# Altium integrated library Analog Devices Operational Amplifiers.IntLib: 2102 symbols (part 22 of 70)
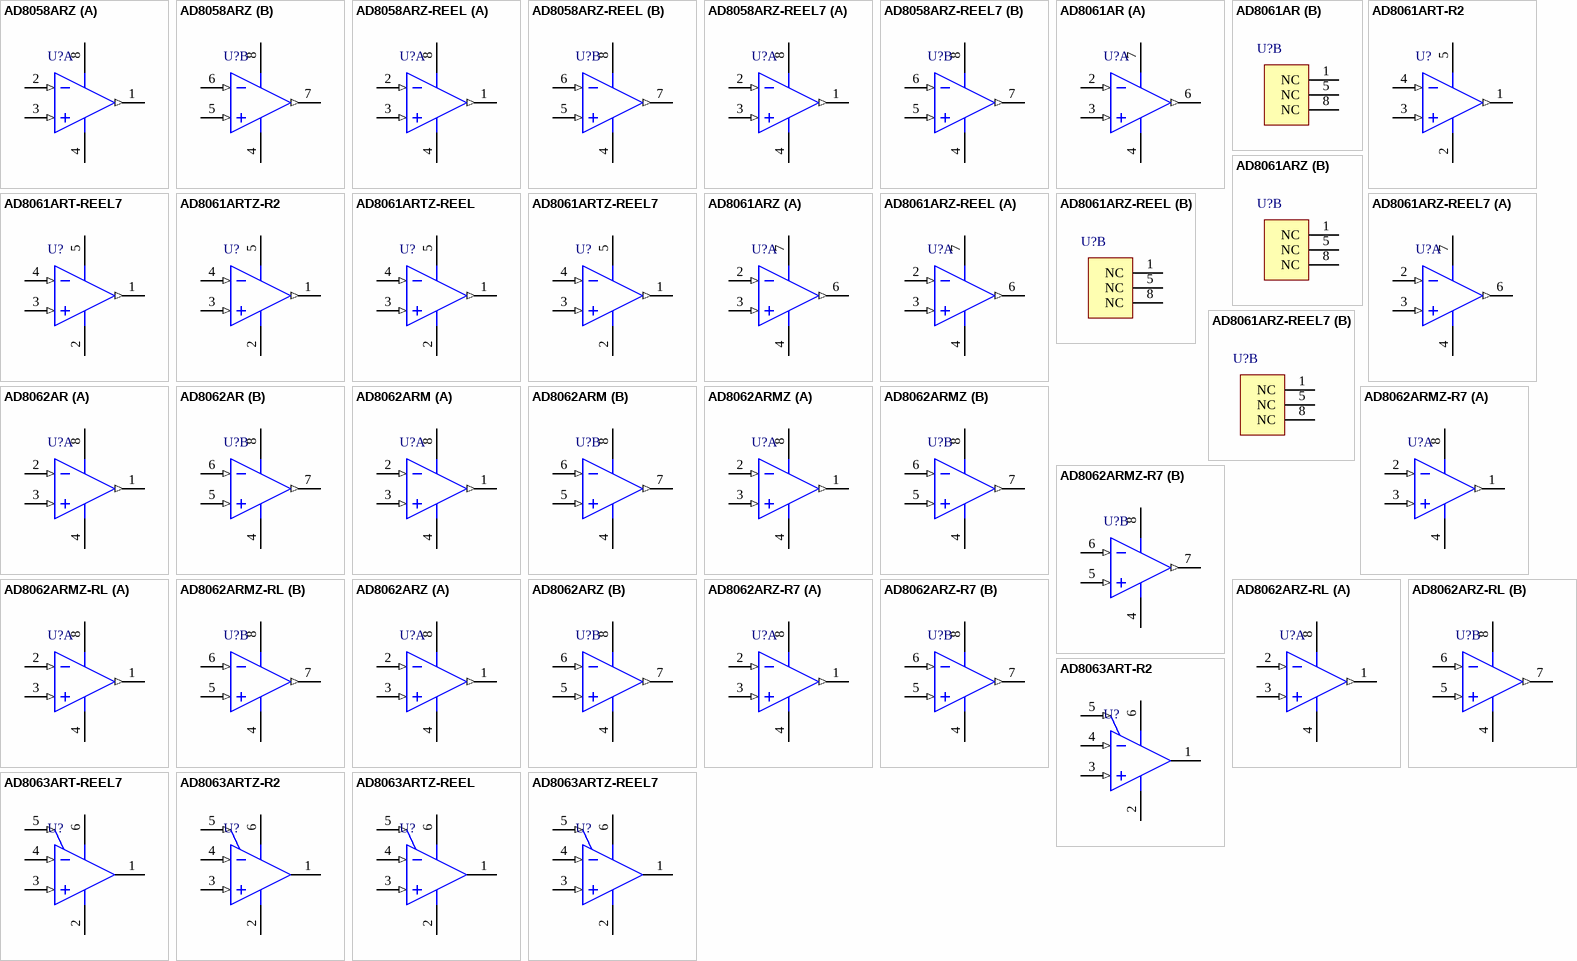
[diagram p135: symbols AD8058ARZ to AD8063ARTZ-REEL7]

## AD8061ART-REEL7
designator U?
Single Channel Low Offset Voltage Operational Amplifier, 320 MHz BW, 650 V/us SR, Industrial, 5-pin SOT23 (RJ-5), Reel; Generic Part Number: AD8061; Manufacturer: Analog Devices; PartNumber: AD8061ART-REEL7; Amplifiers Per Package: 1; Input Bias Current: 350nA; Input Offset Voltage: 1mV; Iq/Amp: 9.5mA; Small Signal Bandwidth: 320MHz; V Span Max: 8V; V Span Min: 2.7V; DatasheetVersion: Rev. G; PackageVersion: 121608-A; PackageReference: RJ-5; PackageDescription: 5-Pin Small Outline Transistor Package, Body 2.9 x 1.6 mm, Pitch 0.95 mm; Supplier 1: Digi-Key; Supplier Part Number 1: AD8061ART-REEL7TR-ND; Supplier 2: Digi-Key; Supplier Part Number 2: AD8061ART-REEL7CT-ND; Supplier 3: Newark; Supplier Part Number 3: 19M8879; Slew Rate: 650V/us; Mounting Technology: Surface Mount; Code_JEDEC: MO-178-AA; ComponentLink1Description: Manufacturer URL; ComponentLink1URL: http://www.analog.com/en/index.html; ComponentLink2Description: Datasheet; ComponentLink2URL: http://www.analog.com/static/imported-files/data_sheets/AD8061_8062_8063.pdf; ComponentLink3Description: Package Specification; ComponentLink3URL: http://www.analog.com/static/imported-files/packages/PKG_PDF/SOT-23(RJ)/RJ_5.pdf
footprint ADI-RJ-5_N (SOT-23, 5-Leads, Body 2.9x1.6mm, Pitch 0.95mm, IPC Medium Density)
footprint ADI-RJ-5_L (SOT-23, 5-Leads, Body 2.9x1.6mm, Pitch 0.95mm, IPC High Density)
footprint ADI-RJ-5_M (SOT-23, 5-Leads, Body 2.9x1.6mm, Pitch 0.95mm, IPC Low Density)
pins: 1 VOUT (out), 2 -VS (power), 3 +IN (in), 4 -IN (in), 5 +VS (power)

## AD8061ARTZ-R2
designator U?
Single Channel Low Offset Voltage Operational Amplifier, 320 MHz BW, 650 V/us SR, Industrial, 5-pin SOT23 (RJ-5), Reel; Generic Part Number: AD8061; Manufacturer: Analog Devices; PartNumber: AD8061ARTZ-R2; Amplifiers Per Package: 1; Input Bias Current: 350nA; Input Offset Voltage: 1mV; Iq/Amp: 9.5mA; Small Signal Bandwidth: 320MHz; V Span Max: 8V; V Span Min: 2.7V; DatasheetVersion: Rev. G; PackageVersion: 121608-A; PackageReference: RJ-5; PackageDescription: 5-Pin Small Outline Transistor Package, Body 2.9 x 1.6 mm, Pitch 0.95 mm; Supplier 1: Newark; Supplier Part Number 1: 88H0157; Slew Rate: 650V/us; Mounting Technology: Surface Mount; Code_JEDEC: MO-178-AA; ComponentLink1Description: Manufacturer URL; ComponentLink1URL: http://www.analog.com/en/index.html; ComponentLink2Description: Datasheet; ComponentLink2URL: http://www.analog.com/static/imported-files/data_sheets/AD8061_8062_8063.pdf; ComponentLink3Description: Package Specification; ComponentLink3URL: http://www.analog.com/static/imported-files/packages/PKG_PDF/SOT-23(RJ)/RJ_5.pdf
footprint ADI-RJ-5_N (SOT-23, 5-Leads, Body 2.9x1.6mm, Pitch 0.95mm, IPC Medium Density)
footprint ADI-RJ-5_L (SOT-23, 5-Leads, Body 2.9x1.6mm, Pitch 0.95mm, IPC High Density)
footprint ADI-RJ-5_M (SOT-23, 5-Leads, Body 2.9x1.6mm, Pitch 0.95mm, IPC Low Density)
pins: 1 VOUT (out), 2 -VS (power), 3 +IN (in), 4 -IN (in), 5 +VS (power)

## AD8061ARTZ-REEL
designator U?
Single Channel Low Offset Voltage Operational Amplifier, 320 MHz BW, 650 V/us SR, Industrial, 5-pin SOT23 (RJ-5), Reel; Generic Part Number: AD8061; Manufacturer: Analog Devices; PartNumber: AD8061ARTZ-REEL; Amplifiers Per Package: 1; Input Bias Current: 350nA; Input Offset Voltage: 1mV; Iq/Amp: 9.5mA; Small Signal Bandwidth: 320MHz; V Span Max: 8V; V Span Min: 2.7V; DatasheetVersion: Rev. G; PackageVersion: 121608-A; PackageReference: RJ-5; PackageDescription: 5-Pin Small Outline Transistor Package, Body 2.9 x 1.6 mm, Pitch 0.95 mm; Supplier 1: Digi-Key; Supplier Part Number 1: AD8061ARTZ-REEL-ND; Supplier 2: Newark; Supplier Part Number 2: 88H0155; Slew Rate: 650V/us; Mounting Technology: Surface Mount; Code_JEDEC: MO-178-AA; ComponentLink1Description: Manufacturer URL; ComponentLink1URL: http://www.analog.com/en/index.html; ComponentLink2Description: Datasheet; ComponentLink2URL: http://www.analog.com/static/imported-files/data_sheets/AD8061_8062_8063.pdf; ComponentLink3Description: Package Specification; ComponentLink3URL: http://www.analog.com/static/imported-files/packages/PKG_PDF/SOT-23(RJ)/RJ_5.pdf
footprint ADI-RJ-5_N (SOT-23, 5-Leads, Body 2.9x1.6mm, Pitch 0.95mm, IPC Medium Density)
footprint ADI-RJ-5_L (SOT-23, 5-Leads, Body 2.9x1.6mm, Pitch 0.95mm, IPC High Density)
footprint ADI-RJ-5_M (SOT-23, 5-Leads, Body 2.9x1.6mm, Pitch 0.95mm, IPC Low Density)
pins: 1 VOUT (out), 2 -VS (power), 3 +IN (in), 4 -IN (in), 5 +VS (power)

## AD8061ARTZ-REEL7
designator U?
Single Channel Low Offset Voltage Operational Amplifier, 320 MHz BW, 650 V/us SR, Industrial, 5-pin SOT23 (RJ-5), Reel; Generic Part Number: AD8061; Manufacturer: Analog Devices; PartNumber: AD8061ARTZ-REEL7; Amplifiers Per Package: 1; Input Bias Current: 350nA; Input Offset Voltage: 1mV; Iq/Amp: 9.5mA; Small Signal Bandwidth: 320MHz; V Span Max: 8V; V Span Min: 2.7V; DatasheetVersion: Rev. G; PackageVersion: 121608-A; PackageReference: RJ-5; PackageDescription: 5-Pin Small Outline Transistor Package, Body 2.9 x 1.6 mm, Pitch 0.95 mm; Supplier 1: Digi-Key; Supplier Part Number 1: AD8061ARTZ-REEL7TR-ND; Supplier 2: Digi-Key; Supplier Part Number 2: AD8061ARTZ-REEL7CT-ND; Supplier 3: Digi-Key; Supplier Part Number 3: AD8061ARTZ-REEL7DKR-ND; Supplier 4: Farnell; Supplier Part Number 4: 1838865; Supplier 5: Farnell; Supplier Part Number 5: 1838865RL; Supplier 6: Newark; Supplier Part Number 6: 19M8880; Supplier 7: Newark; Supplier Part Number 7: 88H0156; Slew Rate: 650V/us; Mounting Technology: Surface Mount; Code_JEDEC: MO-178-AA; ComponentLink1Description: Manufacturer URL; ComponentLink1URL: http://www.analog.com/en/index.html; ComponentLink2Description: Datasheet; ComponentLink2URL: http://www.analog.com/static/imported-files/data_sheets/AD8061_8062_8063.pdf; ComponentLink3Description: Package Specification; ComponentLink3URL: http://www.analog.com/static/imported-files/packages/PKG_PDF/SOT-23(RJ)/RJ_5.pdf
footprint ADI-RJ-5_N (SOT-23, 5-Leads, Body 2.9x1.6mm, Pitch 0.95mm, IPC Medium Density)
footprint ADI-RJ-5_L (SOT-23, 5-Leads, Body 2.9x1.6mm, Pitch 0.95mm, IPC High Density)
footprint ADI-RJ-5_M (SOT-23, 5-Leads, Body 2.9x1.6mm, Pitch 0.95mm, IPC Low Density)
pins: 1 VOUT (out), 2 -VS (power), 3 +IN (in), 4 -IN (in), 5 +VS (power)

## AD8061ARZ
designator U?
Single Channel Low Offset Voltage Operational Amplifier, 320 MHz BW, 650 V/us SR, Industrial, 8-pin SOIC (R-8), Tube; Generic Part Number: AD8061; Manufacturer: Analog Devices; PartNumber: AD8061ARZ; Amplifiers Per Package: 1; Input Bias Current: 350nA; Input Offset Voltage: 1mV; Iq/Amp: 9.5mA; Small Signal Bandwidth: 320MHz; V Span Max: 8V; V Span Min: 2.7V; DatasheetVersion: Rev. G; PackageVersion: 060506-A; PackageReference: R-8; PackageDescription: 8-Pin Standard Small Outline Package, Body 3.9 x 4.9 mm, Pitch 1.27 mm; Supplier 1: Digi-Key; Supplier Part Number 1: AD8061ARZ-ND; Slew Rate: 650V/us; Mounting Technology: Surface Mount; Code_JEDEC: MS-012-AA; ComponentLink1Description: Manufacturer URL; ComponentLink1URL: http://www.analog.com/en/index.html; ComponentLink2Description: Datasheet; ComponentLink2URL: http://www.analog.com/static/imported-files/data_sheets/AD8061_8062_8063.pdf; ComponentLink3Description: Package Specification; ComponentLink3URL: http://www.analog.com/static/imported-files/packages/PKG_PDF/SOIC_Narrow%20(R)/R_8.pdf
footprint ADI-R-8_N (SOIC, 8-Leads, Body 4.9x3.9mm, Pitch 1.27mm, IPC Medium Density)
footprint ADI-R-8_L (SOIC, 8-Leads, Body 4.9x3.9mm, Pitch 1.27mm, IPC High Density)
footprint ADI-R-8_M (SOIC, 8-Leads, Body 4.9x3.9mm, Pitch 1.27mm, IPC Low Density)
part A pins: 2 -IN (in), 3 +IN (in), 4 -VS (power), 6 VOUT (out), 7 +VS (power)
part B pins: 1 NC, 5 NC, 8 NC

## AD8061ARZ-REEL
designator U?
Single Channel Low Offset Voltage Operational Amplifier, 320 MHz BW, 650 V/us SR, Industrial, 8-pin SOIC (R-8), Reel; Generic Part Number: AD8061; Manufacturer: Analog Devices; PartNumber: AD8061ARZ-REEL; Amplifiers Per Package: 1; Input Bias Current: 350nA; Input Offset Voltage: 1mV; Iq/Amp: 9.5mA; Small Signal Bandwidth: 320MHz; V Span Max: 8V; V Span Min: 2.7V; DatasheetVersion: Rev. G; PackageVersion: 060506-A; PackageReference: R-8; PackageDescription: 8-Pin Standard Small Outline Package, Body 3.9 x 4.9 mm, Pitch 1.27 mm; Supplier 1: Digi-Key; Supplier Part Number 1: AD8061ARZ-REEL-ND; Slew Rate: 650V/us; Mounting Technology: Surface Mount; Code_JEDEC: MS-012-AA; ComponentLink1Description: Manufacturer URL; ComponentLink1URL: http://www.analog.com/en/index.html; ComponentLink2Description: Datasheet; ComponentLink2URL: http://www.analog.com/static/imported-files/data_sheets/AD8061_8062_8063.pdf; ComponentLink3Description: Package Specification; ComponentLink3URL: http://www.analog.com/static/imported-files/packages/PKG_PDF/SOIC_Narrow%20(R)/R_8.pdf
footprint ADI-R-8_N (SOIC, 8-Leads, Body 4.9x3.9mm, Pitch 1.27mm, IPC Medium Density)
footprint ADI-R-8_L (SOIC, 8-Leads, Body 4.9x3.9mm, Pitch 1.27mm, IPC High Density)
footprint ADI-R-8_M (SOIC, 8-Leads, Body 4.9x3.9mm, Pitch 1.27mm, IPC Low Density)
part A pins: 2 -IN (in), 3 +IN (in), 4 -VS (power), 6 VOUT (out), 7 +VS (power)
part B pins: 1 NC, 5 NC, 8 NC

## AD8061ARZ-REEL7
designator U?
Single Channel Low Offset Voltage Operational Amplifier, 320 MHz BW, 650 V/us SR, Industrial, 8-pin SOIC (R-8), Reel; Generic Part Number: AD8061; Manufacturer: Analog Devices; PartNumber: AD8061ARZ-REEL7; Amplifiers Per Package: 1; Input Bias Current: 350nA; Input Offset Voltage: 1mV; Iq/Amp: 9.5mA; Small Signal Bandwidth: 320MHz; V Span Max: 8V; V Span Min: 2.7V; DatasheetVersion: Rev. G; PackageVersion: 060506-A; PackageReference: R-8; PackageDescription: 8-Pin Standard Small Outline Package, Body 3.9 x 4.9 mm, Pitch 1.27 mm; Supplier 1: Digi-Key; Supplier Part Number 1: AD8061ARZ-REEL7-ND; Supplier 2: Farnell; Supplier Part Number 2: 2112569; Supplier 3: Newark; Supplier Part Number 3: 63M0909; Slew Rate: 650V/us; Mounting Technology: Surface Mount; Code_JEDEC: MS-012-AA; ComponentLink1Description: Manufacturer URL; ComponentLink1URL: http://www.analog.com/en/index.html; ComponentLink2Description: Datasheet; ComponentLink2URL: http://www.analog.com/static/imported-files/data_sheets/AD8061_8062_8063.pdf; ComponentLink3Description: Package Specification; ComponentLink3URL: http://www.analog.com/static/imported-files/packages/PKG_PDF/SOIC_Narrow%20(R)/R_8.pdf
footprint ADI-R-8_N (SOIC, 8-Leads, Body 4.9x3.9mm, Pitch 1.27mm, IPC Medium Density)
footprint ADI-R-8_L (SOIC, 8-Leads, Body 4.9x3.9mm, Pitch 1.27mm, IPC High Density)
footprint ADI-R-8_M (SOIC, 8-Leads, Body 4.9x3.9mm, Pitch 1.27mm, IPC Low Density)
part A pins: 2 -IN (in), 3 +IN (in), 4 -VS (power), 6 VOUT (out), 7 +VS (power)
part B pins: 1 NC, 5 NC, 8 NC

## AD8062AR
designator U?
Double Channel Low Offset Voltage Operational Amplifier, 320 MHz BW, 650 V/us SR, Industrial, 8-pin SOIC (R-8), Tube; Generic Part Number: AD8062; Manufacturer: Analog Devices; PartNumber: AD8062AR; Amplifiers Per Package: 2; Input Bias Current: 350nA; Input Offset Voltage: 1mV; Iq/Amp: 9.5mA; Small Signal Bandwidth: 320MHz; V Span Max: 8V; V Span Min: 2.7V; DatasheetVersion: Rev. G; PackageVersion: 060506-A; PackageReference: R-8; PackageDescription: 8-Pin Standard Small Outline Package, Body 3.9 x 4.9 mm, Pitch 1.27 mm; Supplier 1: Digi-Key; Supplier Part Number 1: AD8062AR-ND; Slew Rate: 650V/us; Mounting Technology: Surface Mount; Code_JEDEC: MS-012-AA; ComponentLink1Description: Manufacturer URL; ComponentLink1URL: http://www.analog.com/en/index.html; ComponentLink2Description: Datasheet; ComponentLink2URL: http://www.analog.com/static/imported-files/data_sheets/AD8061_8062_8063.pdf; ComponentLink3Description: Package Specification; ComponentLink3URL: http://www.analog.com/static/imported-files/packages/PKG_PDF/SOIC_Narrow%20(R)/R_8.pdf
footprint ADI-R-8_N (SOIC, 8-Leads, Body 4.9x3.9mm, Pitch 1.27mm, IPC Medium Density)
footprint ADI-R-8_L (SOIC, 8-Leads, Body 4.9x3.9mm, Pitch 1.27mm, IPC High Density)
footprint ADI-R-8_M (SOIC, 8-Leads, Body 4.9x3.9mm, Pitch 1.27mm, IPC Low Density)
pins on every part: 4 -VS (power), 8 +VS (power)
part A pins: 1 VOUT 1 (out), 2 -IN 1 (in), 3 +IN 1 (in)
part B pins: 5 +IN 2 (in), 6 -IN 2 (in), 7 VOUT 2 (out)

## AD8062ARM
designator U?
Double Channel Low Offset Voltage Operational Amplifier, 320 MHz BW, 650 V/us SR, Industrial, 8-pin SOP (RM-8), Tube; Generic Part Number: AD8062; Manufacturer: Analog Devices; PartNumber: AD8062ARM; Amplifiers Per Package: 2; Input Bias Current: 350nA; Input Offset Voltage: 1mV; Iq/Amp: 9.5mA; Small Signal Bandwidth: 320MHz; V Span Max: 8V; V Span Min: 2.7V; DatasheetVersion: Rev. G; PackageReference: RM-8; PackageDescription: 8-Pin Mini Small Outline Package, Body 3 x 3 mm, Pitch 0.65 mm; Supplier 1: Digi-Key; Supplier Part Number 1: AD8062ARM-ND; Supplier 2: Newark; Supplier Part Number 2: 98B7373; Slew Rate: 650V/us; Mounting Technology: Surface Mount; Code_JEDEC: MO-187-AA; ComponentLink1Description: Manufacturer URL; ComponentLink1URL: http://www.analog.com/en/index.html; ComponentLink2Description: Datasheet; ComponentLink2URL: http://www.analog.com/static/imported-files/data_sheets/AD8061_8062_8063.pdf; ComponentLink3Description: Package Specification; ComponentLink3URL: http://www.analog.com/static/imported-files/packages/PKG_PDF/MSOP%28RM%29/RM_8.pdf
footprint ADI-RM-8_N (SOP, 8-Leads, Body 3x3mm, Pitch 0.65mm, IPC Medium Density)
footprint ADI-RM-8_L (SOP, 8-Leads, Body 3x3mm, Pitch 0.65mm, IPC High Density)
footprint ADI-RM-8_M (SOP, 8-Leads, Body 3x3mm, Pitch 0.65mm, IPC Low Density)
pins on every part: 4 -VS (power), 8 +VS (power)
part A pins: 1 VOUT 1 (out), 2 -IN 1 (in), 3 +IN 1 (in)
part B pins: 5 +IN 2 (in), 6 -IN 2 (in), 7 VOUT 2 (out)

## AD8062ARMZ
designator U?
Double Channel Low Offset Voltage Operational Amplifier, 320 MHz BW, 650 V/us SR, Industrial, 8-pin SOP (RM-8), Tube; Generic Part Number: AD8062; Manufacturer: Analog Devices; PartNumber: AD8062ARMZ; Amplifiers Per Package: 2; Input Bias Current: 350nA; Input Offset Voltage: 1mV; Iq/Amp: 9.5mA; Small Signal Bandwidth: 320MHz; V Span Max: 8V; V Span Min: 2.7V; DatasheetVersion: Rev. G; PackageReference: RM-8; PackageDescription: 8-Pin Mini Small Outline Package, Body 3 x 3 mm, Pitch 0.65 mm; Supplier 1: Digi-Key; Supplier Part Number 1: AD8062ARMZ-ND; Supplier 2: Newark; Supplier Part Number 2: 74R5999; Slew Rate: 650V/us; Mounting Technology: Surface Mount; Code_JEDEC: MO-187-AA; ComponentLink1Description: Manufacturer URL; ComponentLink1URL: http://www.analog.com/en/index.html; ComponentLink2Description: Datasheet; ComponentLink2URL: http://www.analog.com/static/imported-files/data_sheets/AD8061_8062_8063.pdf; ComponentLink3Description: Package Specification; ComponentLink3URL: http://www.analog.com/static/imported-files/packages/PKG_PDF/MSOP%28RM%29/RM_8.pdf
footprint ADI-RM-8_N (SOP, 8-Leads, Body 3x3mm, Pitch 0.65mm, IPC Medium Density)
footprint ADI-RM-8_L (SOP, 8-Leads, Body 3x3mm, Pitch 0.65mm, IPC High Density)
footprint ADI-RM-8_M (SOP, 8-Leads, Body 3x3mm, Pitch 0.65mm, IPC Low Density)
pins on every part: 4 -VS (power), 8 +VS (power)
part A pins: 1 VOUT 1 (out), 2 -IN 1 (in), 3 +IN 1 (in)
part B pins: 5 +IN 2 (in), 6 -IN 2 (in), 7 VOUT 2 (out)

## AD8062ARMZ-R7
designator U?
Double Channel Low Offset Voltage Operational Amplifier, 320 MHz BW, 650 V/us SR, Industrial, 8-pin SOP (RM-8), Reel; Generic Part Number: AD8062; Manufacturer: Analog Devices; PartNumber: AD8062ARMZ-R7; Amplifiers Per Package: 2; Input Bias Current: 350nA; Input Offset Voltage: 1mV; Iq/Amp: 9.5mA; Small Signal Bandwidth: 320MHz; V Span Max: 8V; V Span Min: 2.7V; DatasheetVersion: Rev. G; PackageReference: RM-8; PackageDescription: 8-Pin Mini Small Outline Package, Body 3 x 3 mm, Pitch 0.65 mm; Supplier 1: Digi-Key; Supplier Part Number 1: AD8062ARMZ-R7TR-ND; Supplier 2: Digi-Key; Supplier Part Number 2: AD8062ARMZ-R7CT-ND; Supplier 3: Digi-Key; Supplier Part Number 3: AD8062ARMZ-R7DKR-ND; Supplier 4: Newark; Supplier Part Number 4: 59K6311; Slew Rate: 650V/us; Mounting Technology: Surface Mount; Code_JEDEC: MO-187-AA; ComponentLink1Description: Manufacturer URL; ComponentLink1URL: http://www.analog.com/en/index.html; ComponentLink2Description: Datasheet; ComponentLink2URL: http://www.analog.com/static/imported-files/data_sheets/AD8061_8062_8063.pdf; ComponentLink3Description: Package Specification; ComponentLink3URL: http://www.analog.com/static/imported-files/packages/PKG_PDF/MSOP%28RM%29/RM_8.pdf
footprint ADI-RM-8_N (SOP, 8-Leads, Body 3x3mm, Pitch 0.65mm, IPC Medium Density)
footprint ADI-RM-8_L (SOP, 8-Leads, Body 3x3mm, Pitch 0.65mm, IPC High Density)
footprint ADI-RM-8_M (SOP, 8-Leads, Body 3x3mm, Pitch 0.65mm, IPC Low Density)
pins on every part: 4 -VS (power), 8 +VS (power)
part A pins: 1 VOUT 1 (out), 2 -IN 1 (in), 3 +IN 1 (in)
part B pins: 5 +IN 2 (in), 6 -IN 2 (in), 7 VOUT 2 (out)

## AD8062ARMZ-RL
designator U?
Double Channel Low Offset Voltage Operational Amplifier, 320 MHz BW, 650 V/us SR, Industrial, 8-pin SOP (RM-8), Reel; Generic Part Number: AD8062; Manufacturer: Analog Devices; PartNumber: AD8062ARMZ-RL; Amplifiers Per Package: 2; Input Bias Current: 350nA; Input Offset Voltage: 1mV; Iq/Amp: 9.5mA; Small Signal Bandwidth: 320MHz; V Span Max: 8V; V Span Min: 2.7V; DatasheetVersion: Rev. G; PackageReference: RM-8; PackageDescription: 8-Pin Mini Small Outline Package, Body 3 x 3 mm, Pitch 0.65 mm; Supplier 1: Digi-Key; Supplier Part Number 1: AD8062ARMZ-RL-ND; Slew Rate: 650V/us; Mounting Technology: Surface Mount; Code_JEDEC: MO-187-AA; ComponentLink1Description: Manufacturer URL; ComponentLink1URL: http://www.analog.com/en/index.html; ComponentLink2Description: Datasheet; ComponentLink2URL: http://www.analog.com/static/imported-files/data_sheets/AD8061_8062_8063.pdf; ComponentLink3Description: Package Specification; ComponentLink3URL: http://www.analog.com/static/imported-files/packages/PKG_PDF/MSOP%28RM%29/RM_8.pdf
footprint ADI-RM-8_N (SOP, 8-Leads, Body 3x3mm, Pitch 0.65mm, IPC Medium Density)
footprint ADI-RM-8_L (SOP, 8-Leads, Body 3x3mm, Pitch 0.65mm, IPC High Density)
footprint ADI-RM-8_M (SOP, 8-Leads, Body 3x3mm, Pitch 0.65mm, IPC Low Density)
pins on every part: 4 -VS (power), 8 +VS (power)
part A pins: 1 VOUT 1 (out), 2 -IN 1 (in), 3 +IN 1 (in)
part B pins: 5 +IN 2 (in), 6 -IN 2 (in), 7 VOUT 2 (out)

## AD8062ARZ
designator U?
Double Channel Low Offset Voltage Operational Amplifier, 320 MHz BW, 650 V/us SR, Industrial, 8-pin SOIC (R-8), Tube; Generic Part Number: AD8062; Manufacturer: Analog Devices; PartNumber: AD8062ARZ; Amplifiers Per Package: 2; Input Bias Current: 350nA; Input Offset Voltage: 1mV; Iq/Amp: 9.5mA; Small Signal Bandwidth: 320MHz; V Span Max: 8V; V Span Min: 2.7V; DatasheetVersion: Rev. G; PackageVersion: 060506-A; PackageReference: R-8; PackageDescription: 8-Pin Standard Small Outline Package, Body 3.9 x 4.9 mm, Pitch 1.27 mm; Supplier 1: Digi-Key; Supplier Part Number 1: AD8062ARZ-ND; Supplier 2: Farnell; Supplier Part Number 2: 9425837; Supplier 3: Newark; Supplier Part Number 3: 19M0928; Slew Rate: 650V/us; Mounting Technology: Surface Mount; Code_JEDEC: MS-012-AA; ComponentLink1Description: Manufacturer URL; ComponentLink1URL: http://www.analog.com/en/index.html; ComponentLink2Description: Datasheet; ComponentLink2URL: http://www.analog.com/static/imported-files/data_sheets/AD8061_8062_8063.pdf; ComponentLink3Description: Package Specification; ComponentLink3URL: http://www.analog.com/static/imported-files/packages/PKG_PDF/SOIC_Narrow%20(R)/R_8.pdf
footprint ADI-R-8_N (SOIC, 8-Leads, Body 4.9x3.9mm, Pitch 1.27mm, IPC Medium Density)
footprint ADI-R-8_L (SOIC, 8-Leads, Body 4.9x3.9mm, Pitch 1.27mm, IPC High Density)
footprint ADI-R-8_M (SOIC, 8-Leads, Body 4.9x3.9mm, Pitch 1.27mm, IPC Low Density)
pins on every part: 4 -VS (power), 8 +VS (power)
part A pins: 1 VOUT 1 (out), 2 -IN 1 (in), 3 +IN 1 (in)
part B pins: 5 +IN 2 (in), 6 -IN 2 (in), 7 VOUT 2 (out)

## AD8062ARZ-R7
designator U?
Double Channel Low Offset Voltage Operational Amplifier, 320 MHz BW, 650 V/us SR, Industrial, 8-pin SOIC (R-8), Reel; Generic Part Number: AD8062; Manufacturer: Analog Devices; PartNumber: AD8062ARZ-R7; Amplifiers Per Package: 2; Input Bias Current: 350nA; Input Offset Voltage: 1mV; Iq/Amp: 9.5mA; Small Signal Bandwidth: 320MHz; V Span Max: 8V; V Span Min: 2.7V; DatasheetVersion: Rev. G; PackageVersion: 060506-A; PackageReference: R-8; PackageDescription: 8-Pin Standard Small Outline Package, Body 3.9 x 4.9 mm, Pitch 1.27 mm; Supplier 1: Digi-Key; Supplier Part Number 1: AD8062ARZ-R7TR-ND; Supplier 2: Digi-Key; Supplier Part Number 2: AD8062ARZ-R7CT-ND; Supplier 3: Digi-Key; Supplier Part Number 3: AD8062ARZ-R7DKR-ND; Supplier 4: Newark; Supplier Part Number 4: 88H0162; Slew Rate: 650V/us; Mounting Technology: Surface Mount; Code_JEDEC: MS-012-AA; ComponentLink1Description: Manufacturer URL; ComponentLink1URL: http://www.analog.com/en/index.html; ComponentLink2Description: Datasheet; ComponentLink2URL: http://www.analog.com/static/imported-files/data_sheets/AD8061_8062_8063.pdf; ComponentLink3Description: Package Specification; ComponentLink3URL: http://www.analog.com/static/imported-files/packages/PKG_PDF/SOIC_Narrow%20(R)/R_8.pdf
footprint ADI-R-8_N (SOIC, 8-Leads, Body 4.9x3.9mm, Pitch 1.27mm, IPC Medium Density)
footprint ADI-R-8_L (SOIC, 8-Leads, Body 4.9x3.9mm, Pitch 1.27mm, IPC High Density)
footprint ADI-R-8_M (SOIC, 8-Leads, Body 4.9x3.9mm, Pitch 1.27mm, IPC Low Density)
pins on every part: 4 -VS (power), 8 +VS (power)
part A pins: 1 VOUT 1 (out), 2 -IN 1 (in), 3 +IN 1 (in)
part B pins: 5 +IN 2 (in), 6 -IN 2 (in), 7 VOUT 2 (out)

## AD8062ARZ-RL
designator U?
Double Channel Low Offset Voltage Operational Amplifier, 320 MHz BW, 650 V/us SR, Industrial, 8-pin SOIC (R-8), Reel; Generic Part Number: AD8062; Manufacturer: Analog Devices; PartNumber: AD8062ARZ-RL; Amplifiers Per Package: 2; Input Bias Current: 350nA; Input Offset Voltage: 1mV; Iq/Amp: 9.5mA; Small Signal Bandwidth: 320MHz; V Span Max: 8V; V Span Min: 2.7V; DatasheetVersion: Rev. G; PackageVersion: 060506-A; PackageReference: R-8; PackageDescription: 8-Pin Standard Small Outline Package, Body 3.9 x 4.9 mm, Pitch 1.27 mm; Supplier 1: Digi-Key; Supplier Part Number 1: AD8062ARZ-RL-ND; Supplier 2: Newark; Supplier Part Number 2: 88H0161; Slew Rate: 650V/us; Mounting Technology: Surface Mount; Code_JEDEC: MS-012-AA; ComponentLink1Description: Manufacturer URL; ComponentLink1URL: http://www.analog.com/en/index.html; ComponentLink2Description: Datasheet; ComponentLink2URL: http://www.analog.com/static/imported-files/data_sheets/AD8061_8062_8063.pdf; ComponentLink3Description: Package Specification; ComponentLink3URL: http://www.analog.com/static/imported-files/packages/PKG_PDF/SOIC_Narrow%20(R)/R_8.pdf
footprint ADI-R-8_N (SOIC, 8-Leads, Body 4.9x3.9mm, Pitch 1.27mm, IPC Medium Density)
footprint ADI-R-8_L (SOIC, 8-Leads, Body 4.9x3.9mm, Pitch 1.27mm, IPC High Density)
footprint ADI-R-8_M (SOIC, 8-Leads, Body 4.9x3.9mm, Pitch 1.27mm, IPC Low Density)
pins on every part: 4 -VS (power), 8 +VS (power)
part A pins: 1 VOUT 1 (out), 2 -IN 1 (in), 3 +IN 1 (in)
part B pins: 5 +IN 2 (in), 6 -IN 2 (in), 7 VOUT 2 (out)

## AD8063ART-R2
designator U?
Single Channel Rail-to-Rail Operational Amplifier, 320 MHz BW, 650 V/us SR, Industrial, 6-pin SOT23 (RJ-6), Reel; Generic Part Number: AD8063; Manufacturer: Analog Devices; PartNumber: AD8063ART-R2; Amplifiers Per Package: 1; Input Bias Current: 350nA; Input Offset Voltage: 1mV; Iq/Amp: 9.5mA; Small Signal Bandwidth: 320MHz; V Span Max: 8V; V Span Min: 2.7V; DatasheetVersion: Rev. G; PackageVersion: 121608-A; PackageReference: RJ-6; PackageDescription: 6-Pin Small Outline Transistor Package, Body 2.9 x 1.6 mm, Pitch 0.95 mm; Slew Rate: 650V/us; Mounting Technology: Surface Mount; Code_JEDEC: MO-178-AB; ComponentLink1Description: Manufacturer URL; ComponentLink1URL: http://www.analog.com/en/index.html; ComponentLink2Description: Datasheet; ComponentLink2URL: http://www.analog.com/static/imported-files/data_sheets/AD8061_8062_8063.pdf; ComponentLink3Description: Package Specification; ComponentLink3URL: http://www.analog.com/static/imported-files/packages/PKG_PDF/SOT-23(RJ)/RJ_6.pdf
footprint ADI-RJ-6_N (SOT23, 6-Leads, Body 2.9x1.6mm, Pitch 0.95mm, IPC Medium Density)
footprint ADI-RJ-6_L (SOT23, 6-Leads, Body 2.9x1.6mm, Pitch 0.95mm, IPC High Density)
footprint ADI-RJ-6_M (SOT23, 6-Leads, Body 2.9x1.6mm, Pitch 0.95mm, IPC Low Density)
pins: 1 VOUT (hiz), 2 -VS (power), 3 +IN (in), 4 -IN (in), 5 ~{DISABLE} (in), 6 +VS (power)

## AD8063ART-REEL7
designator U?
Single Channel Rail-to-Rail Operational Amplifier, 320 MHz BW, 650 V/us SR, Industrial, 6-pin SOT23 (RJ-6), Reel; Generic Part Number: AD8063; Manufacturer: Analog Devices; PartNumber: AD8063ART-REEL7; Amplifiers Per Package: 1; Input Bias Current: 350nA; Input Offset Voltage: 1mV; Iq/Amp: 9.5mA; Small Signal Bandwidth: 320MHz; V Span Max: 8V; V Span Min: 2.7V; DatasheetVersion: Rev. G; PackageVersion: 121608-A; PackageReference: RJ-6; PackageDescription: 6-Pin Small Outline Transistor Package, Body 2.9 x 1.6 mm, Pitch 0.95 mm; Supplier 1: Digi-Key; Supplier Part Number 1: AD8063ART-REEL7-ND; Slew Rate: 650V/us; Mounting Technology: Surface Mount; Code_JEDEC: MO-178-AB; ComponentLink1Description: Manufacturer URL; ComponentLink1URL: http://www.analog.com/en/index.html; ComponentLink2Description: Datasheet; ComponentLink2URL: http://www.analog.com/static/imported-files/data_sheets/AD8061_8062_8063.pdf; ComponentLink3Description: Package Specification; ComponentLink3URL: http://www.analog.com/static/imported-files/packages/PKG_PDF/SOT-23(RJ)/RJ_6.pdf
footprint ADI-RJ-6_N (SOT23, 6-Leads, Body 2.9x1.6mm, Pitch 0.95mm, IPC Medium Density)
footprint ADI-RJ-6_L (SOT23, 6-Leads, Body 2.9x1.6mm, Pitch 0.95mm, IPC High Density)
footprint ADI-RJ-6_M (SOT23, 6-Leads, Body 2.9x1.6mm, Pitch 0.95mm, IPC Low Density)
pins: 1 VOUT (hiz), 2 -VS (power), 3 +IN (in), 4 -IN (in), 5 ~{DISABLE} (in), 6 +VS (power)

## AD8063ARTZ-R2
designator U?
Single Channel Rail-to-Rail Operational Amplifier, 320 MHz BW, 650 V/us SR, Industrial, 6-pin SOT23 (RJ-6), Reel; Generic Part Number: AD8063; Manufacturer: Analog Devices; PartNumber: AD8063ARTZ-R2; Amplifiers Per Package: 1; Input Bias Current: 350nA; Input Offset Voltage: 1mV; Iq/Amp: 9.5mA; Small Signal Bandwidth: 320MHz; V Span Max: 8V; V Span Min: 2.7V; DatasheetVersion: Rev. G; PackageVersion: 121608-A; PackageReference: RJ-6; PackageDescription: 6-Pin Small Outline Transistor Package, Body 2.9 x 1.6 mm, Pitch 0.95 mm; Slew Rate: 650V/us; Mounting Technology: Surface Mount; Code_JEDEC: MO-178-AB; ComponentLink1Description: Manufacturer URL; ComponentLink1URL: http://www.analog.com/en/index.html; ComponentLink2Description: Datasheet; ComponentLink2URL: http://www.analog.com/static/imported-files/data_sheets/AD8061_8062_8063.pdf; ComponentLink3Description: Package Specification; ComponentLink3URL: http://www.analog.com/static/imported-files/packages/PKG_PDF/SOT-23(RJ)/RJ_6.pdf
footprint ADI-RJ-6_N (SOT23, 6-Leads, Body 2.9x1.6mm, Pitch 0.95mm, IPC Medium Density)
footprint ADI-RJ-6_L (SOT23, 6-Leads, Body 2.9x1.6mm, Pitch 0.95mm, IPC High Density)
footprint ADI-RJ-6_M (SOT23, 6-Leads, Body 2.9x1.6mm, Pitch 0.95mm, IPC Low Density)
pins: 1 VOUT (hiz), 2 -VS (power), 3 +IN (in), 4 -IN (in), 5 ~{DISABLE} (in), 6 +VS (power)

## AD8063ARTZ-REEL
designator U?
Single Channel Rail-to-Rail Operational Amplifier, 320 MHz BW, 650 V/us SR, Industrial, 6-pin SOT23 (RJ-6), Reel; Generic Part Number: AD8063; Manufacturer: Analog Devices; PartNumber: AD8063ARTZ-REEL; Amplifiers Per Package: 1; Input Bias Current: 350nA; Input Offset Voltage: 1mV; Iq/Amp: 9.5mA; Small Signal Bandwidth: 320MHz; V Span Max: 8V; V Span Min: 2.7V; DatasheetVersion: Rev. G; PackageVersion: 121608-A; PackageReference: RJ-6; PackageDescription: 6-Pin Small Outline Transistor Package, Body 2.9 x 1.6 mm, Pitch 0.95 mm; Supplier 1: Digi-Key; Supplier Part Number 1: AD8063ARTZ-REEL-ND; Slew Rate: 650V/us; Mounting Technology: Surface Mount; Code_JEDEC: MO-178-AB; ComponentLink1Description: Manufacturer URL; ComponentLink1URL: http://www.analog.com/en/index.html; ComponentLink2Description: Datasheet; ComponentLink2URL: http://www.analog.com/static/imported-files/data_sheets/AD8061_8062_8063.pdf; ComponentLink3Description: Package Specification; ComponentLink3URL: http://www.analog.com/static/imported-files/packages/PKG_PDF/SOT-23(RJ)/RJ_6.pdf
footprint ADI-RJ-6_N (SOT23, 6-Leads, Body 2.9x1.6mm, Pitch 0.95mm, IPC Medium Density)
footprint ADI-RJ-6_L (SOT23, 6-Leads, Body 2.9x1.6mm, Pitch 0.95mm, IPC High Density)
footprint ADI-RJ-6_M (SOT23, 6-Leads, Body 2.9x1.6mm, Pitch 0.95mm, IPC Low Density)
pins: 1 VOUT (hiz), 2 -VS (power), 3 +IN (in), 4 -IN (in), 5 ~{DISABLE} (in), 6 +VS (power)

## AD8063ARTZ-REEL7
designator U?
Single Channel Rail-to-Rail Operational Amplifier, 320 MHz BW, 650 V/us SR, Industrial, 6-pin SOT23 (RJ-6), Reel; Generic Part Number: AD8063; Manufacturer: Analog Devices; PartNumber: AD8063ARTZ-REEL7; Amplifiers Per Package: 1; Input Bias Current: 350nA; Input Offset Voltage: 1mV; Iq/Amp: 9.5mA; Small Signal Bandwidth: 320MHz; V Span Max: 8V; V Span Min: 2.7V; DatasheetVersion: Rev. G; PackageVersion: 121608-A; PackageReference: RJ-6; PackageDescription: 6-Pin Small Outline Transistor Package, Body 2.9 x 1.6 mm, Pitch 0.95 mm; Supplier 1: Digi-Key; Supplier Part Number 1: AD8063ARTZ-REEL7TR-ND; Supplier 2: Digi-Key; Supplier Part Number 2: AD8063ARTZ-REEL7CT-ND; Supplier 3: Digi-Key; Supplier Part Number 3: AD8063ARTZ-REEL7DKR-ND; Supplier 4: Newark; Supplier Part Number 4: 88H0164; Slew Rate: 650V/us; Mounting Technology: Surface Mount; Code_JEDEC: MO-178-AB; ComponentLink1Description: Manufacturer URL; ComponentLink1URL: http://www.analog.com/en/index.html; ComponentLink2Description: Datasheet; ComponentLink2URL: http://www.analog.com/static/imported-files/data_sheets/AD8061_8062_8063.pdf; ComponentLink3Description: Package Specification; ComponentLink3URL: http://www.analog.com/static/imported-files/packages/PKG_PDF/SOT-23(RJ)/RJ_6.pdf
footprint ADI-RJ-6_N (SOT23, 6-Leads, Body 2.9x1.6mm, Pitch 0.95mm, IPC Medium Density)
footprint ADI-RJ-6_L (SOT23, 6-Leads, Body 2.9x1.6mm, Pitch 0.95mm, IPC High Density)
footprint ADI-RJ-6_M (SOT23, 6-Leads, Body 2.9x1.6mm, Pitch 0.95mm, IPC Low Density)
pins: 1 VOUT (hiz), 2 -VS (power), 3 +IN (in), 4 -IN (in), 5 ~{DISABLE} (in), 6 +VS (power)

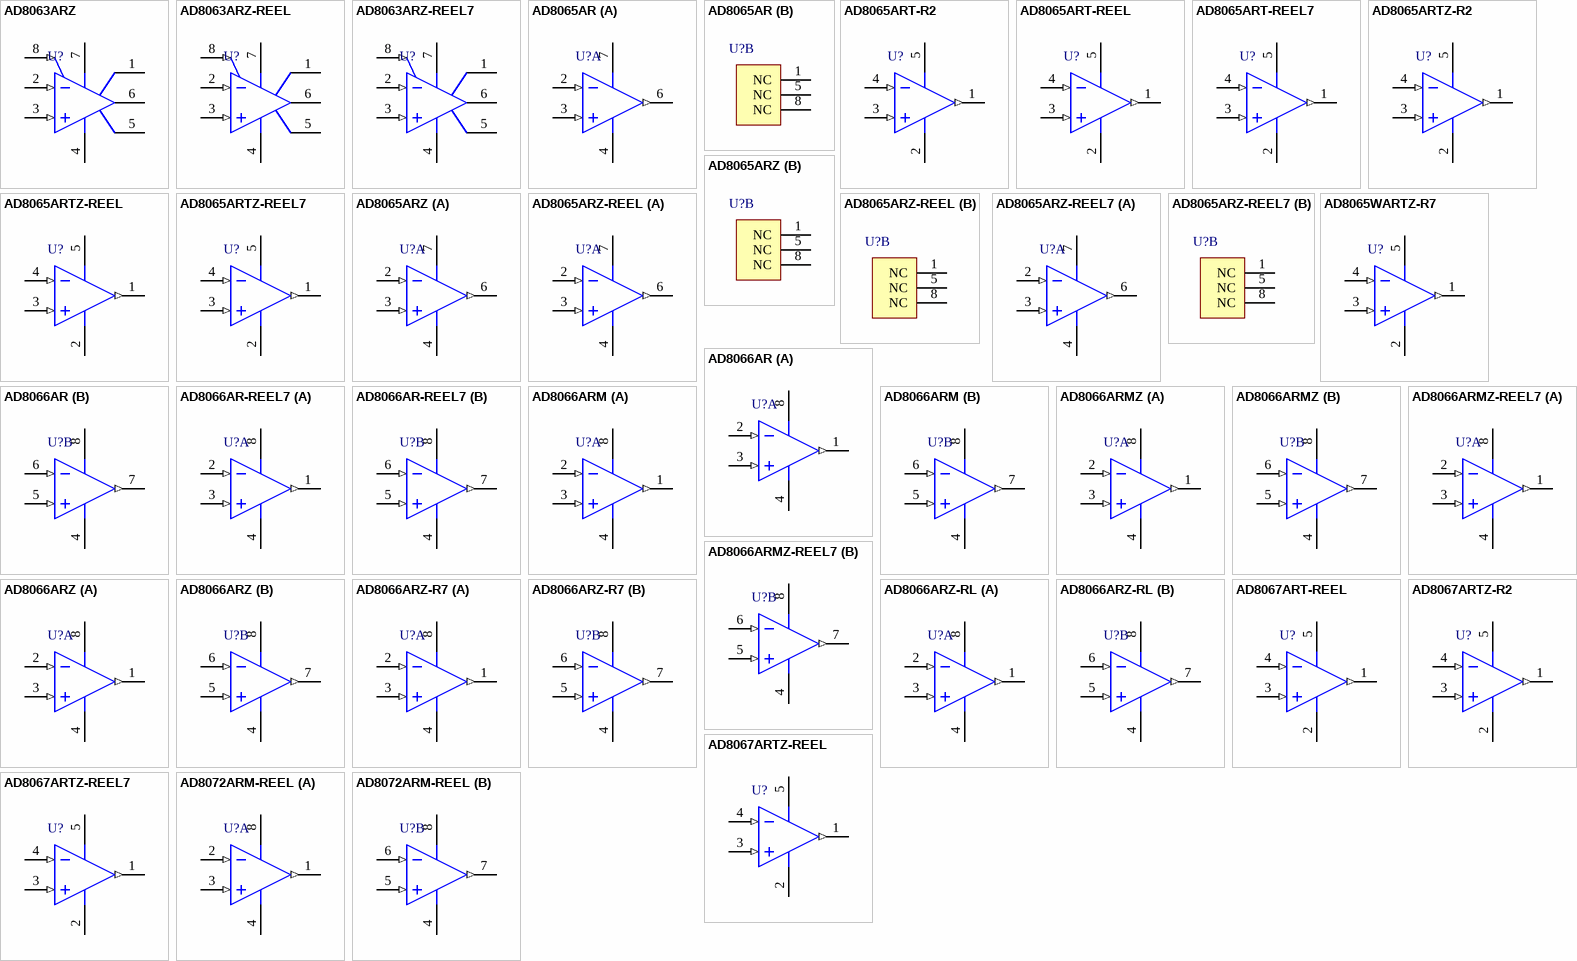
[diagram p33: symbols AD8063ARZ to AD8072ARM-REEL]

## AD8063ARZ
designator U?
Single Channel Rail-to-Rail Operational Amplifier, 320 MHz BW, 650 V/us SR, Industrial, 8-pin SOIC (R-8), Tube; Generic Part Number: AD8063; Manufacturer: Analog Devices; PartNumber: AD8063ARZ; Amplifiers Per Package: 1; Input Bias Current: 350nA; Input Offset Voltage: 1mV; Iq/Amp: 9.5mA; Small Signal Bandwidth: 320MHz; V Span Max: 8V; V Span Min: 2.7V; DatasheetVersion: Rev. G; PackageVersion: 060506-A; PackageReference: R-8; PackageDescription: 8-Pin Standard Small Outline Package, Body 3.9 x 4.9 mm, Pitch 1.27 mm; Supplier 1: Digi-Key; Supplier Part Number 1: AD8063ARZ-ND; Supplier 2: Farnell; Supplier Part Number 2: 1581898; Supplier 3: Newark; Supplier Part Number 3: 59K6312; Slew Rate: 650V/us; Mounting Technology: Surface Mount; Code_JEDEC: MS-012-AA; ComponentLink1Description: Manufacturer URL; ComponentLink1URL: http://www.analog.com/en/index.html; ComponentLink2Description: Datasheet; ComponentLink2URL: http://www.analog.com/static/imported-files/data_sheets/AD8061_8062_8063.pdf; ComponentLink3Description: Package Specification; ComponentLink3URL: http://www.analog.com/static/imported-files/packages/PKG_PDF/SOIC_Narrow%20(R)/R_8.pdf
footprint ADI-R-8_N (SOIC, 8-Leads, Body 4.9x3.9mm, Pitch 1.27mm, IPC Medium Density)
footprint ADI-R-8_L (SOIC, 8-Leads, Body 4.9x3.9mm, Pitch 1.27mm, IPC High Density)
footprint ADI-R-8_M (SOIC, 8-Leads, Body 4.9x3.9mm, Pitch 1.27mm, IPC Low Density)
pins: 1 NC, 2 -IN (in), 3 +IN (in), 4 -VS (power), 5 NC, 6 VOUT (hiz), 7 +VS (power), 8 ~{DISABLE} (in)

## AD8063ARZ-REEL
designator U?
Single Channel Rail-to-Rail Operational Amplifier, 320 MHz BW, 650 V/us SR, Industrial, 8-pin SOIC (R-8), Reel; Generic Part Number: AD8063; Manufacturer: Analog Devices; PartNumber: AD8063ARZ-REEL; Amplifiers Per Package: 1; Input Bias Current: 350nA; Input Offset Voltage: 1mV; Iq/Amp: 9.5mA; Small Signal Bandwidth: 320MHz; V Span Max: 8V; V Span Min: 2.7V; DatasheetVersion: Rev. G; PackageVersion: 060506-A; PackageReference: R-8; PackageDescription: 8-Pin Standard Small Outline Package, Body 3.9 x 4.9 mm, Pitch 1.27 mm; Supplier 1: Digi-Key; Supplier Part Number 1: AD8063ARZ-REEL-ND; Slew Rate: 650V/us; Mounting Technology: Surface Mount; Code_JEDEC: MS-012-AA; ComponentLink1Description: Manufacturer URL; ComponentLink1URL: http://www.analog.com/en/index.html; ComponentLink2Description: Datasheet; ComponentLink2URL: http://www.analog.com/static/imported-files/data_sheets/AD8061_8062_8063.pdf; ComponentLink3Description: Package Specification; ComponentLink3URL: http://www.analog.com/static/imported-files/packages/PKG_PDF/SOIC_Narrow%20(R)/R_8.pdf
footprint ADI-R-8_N (SOIC, 8-Leads, Body 4.9x3.9mm, Pitch 1.27mm, IPC Medium Density)
footprint ADI-R-8_L (SOIC, 8-Leads, Body 4.9x3.9mm, Pitch 1.27mm, IPC High Density)
footprint ADI-R-8_M (SOIC, 8-Leads, Body 4.9x3.9mm, Pitch 1.27mm, IPC Low Density)
pins: 1 NC, 2 -IN (in), 3 +IN (in), 4 -VS (power), 5 NC, 6 VOUT (hiz), 7 +VS (power), 8 ~{DISABLE} (in)

## AD8063ARZ-REEL7
designator U?
Single Channel Rail-to-Rail Operational Amplifier, 320 MHz BW, 650 V/us SR, Industrial, 8-pin SOIC (R-8), Reel; Generic Part Number: AD8063; Manufacturer: Analog Devices; PartNumber: AD8063ARZ-REEL7; Amplifiers Per Package: 1; Input Bias Current: 350nA; Input Offset Voltage: 1mV; Iq/Amp: 9.5mA; Small Signal Bandwidth: 320MHz; V Span Max: 8V; V Span Min: 2.7V; DatasheetVersion: Rev. G; PackageVersion: 060506-A; PackageReference: R-8; PackageDescription: 8-Pin Standard Small Outline Package, Body 3.9 x 4.9 mm, Pitch 1.27 mm; Supplier 1: Digi-Key; Supplier Part Number 1: AD8063ARZ-REEL7-ND; Slew Rate: 650V/us; Mounting Technology: Surface Mount; Code_JEDEC: MS-012-AA; ComponentLink1Description: Manufacturer URL; ComponentLink1URL: http://www.analog.com/en/index.html; ComponentLink2Description: Datasheet; ComponentLink2URL: http://www.analog.com/static/imported-files/data_sheets/AD8061_8062_8063.pdf; ComponentLink3Description: Package Specification; ComponentLink3URL: http://www.analog.com/static/imported-files/packages/PKG_PDF/SOIC_Narrow%20(R)/R_8.pdf
footprint ADI-R-8_N (SOIC, 8-Leads, Body 4.9x3.9mm, Pitch 1.27mm, IPC Medium Density)
footprint ADI-R-8_L (SOIC, 8-Leads, Body 4.9x3.9mm, Pitch 1.27mm, IPC High Density)
footprint ADI-R-8_M (SOIC, 8-Leads, Body 4.9x3.9mm, Pitch 1.27mm, IPC Low Density)
pins: 1 NC, 2 -IN (in), 3 +IN (in), 4 -VS (power), 5 NC, 6 VOUT (hiz), 7 +VS (power), 8 ~{DISABLE} (in)

## AD8065AR
designator U?
Single Channel Low Power Operational Amplifier, 145 MHz BW, 180 V/us SR, Industrial, 8-pin SOIC (R-8), Tube; Generic Part Number: AD8065; Manufacturer: Analog Devices; PartNumber: AD8065AR; Amplifiers Per Package: 1; Automotive Qualified: Yes; Input Bias Current: 2pA; Input Offset Voltage: 400uV; Iq/Amp: 7.4mA; Small Signal Bandwidth: 145MHz; V Span Max: 24V; V Span Min: 5V; DatasheetVersion: Rev. J; PackageVersion: 060506-A; PackageReference: R-8; PackageDescription: 8-Pin Standard Small Outline Package, Body 3.9 x 4.9 mm, Pitch 1.27 mm; Supplier 1: Digi-Key; Supplier Part Number 1: AD8065AR-ND; Slew Rate: 180V/us; Mounting Technology: Surface Mount; Code_JEDEC: MS-012-AA; ComponentLink1Description: Manufacturer URL; ComponentLink1URL: http://www.analog.com/en/index.html; ComponentLink2Description: Datasheet; ComponentLink2URL: http://www.analog.com/static/imported-files/data_sheets/AD8065_8066.pdf; ComponentLink3Description: Package Specification; ComponentLink3URL: http://www.analog.com/static/imported-files/packages/PKG_PDF/SOIC_Narrow%20(R)/R_8.pdf; ComponentLink4Description: Reference Circuit; ComponentLink4URL: http://www.analog.com/en/all-operational-amplifiers-op-amps/operational-amplifiers-op-amps/ad8065/products/product.html#product-recommendations
footprint ADI-R-8_N (SOIC, 8-Leads, Body 4.9x3.9mm, Pitch 1.27mm, IPC Medium Density)
footprint ADI-R-8_L (SOIC, 8-Leads, Body 4.9x3.9mm, Pitch 1.27mm, IPC High Density)
footprint ADI-R-8_M (SOIC, 8-Leads, Body 4.9x3.9mm, Pitch 1.27mm, IPC Low Density)
part A pins: 2 -IN (in), 3 +IN (in), 4 -VS (power), 6 VOUT (out), 7 +VS (power)
part B pins: 1 NC, 5 NC, 8 NC

## AD8065ART-R2
designator U?
Single Channel Low Power Operational Amplifier, 145 MHz BW, 180 V/us SR, Industrial, 5-pin SOT23 (RJ-5), Reel; Generic Part Number: AD8065; Manufacturer: Analog Devices; PartNumber: AD8065ART-R2; Amplifiers Per Package: 1; Automotive Qualified: Yes; Input Bias Current: 2pA; Input Offset Voltage: 400uV; Iq/Amp: 7.4mA; Small Signal Bandwidth: 145MHz; V Span Max: 24V; V Span Min: 5V; DatasheetVersion: Rev. J; PackageVersion: 121608-A; PackageReference: RJ-5; PackageDescription: 5-Pin Small Outline Transistor Package, Body 2.9 x 1.6 mm, Pitch 0.95 mm; Supplier 1: Newark; Supplier Part Number 1: 61H4965; Slew Rate: 180V/us; Mounting Technology: Surface Mount; Code_JEDEC: MO-178-AA; ComponentLink1Description: Manufacturer URL; ComponentLink1URL: http://www.analog.com/en/index.html; ComponentLink2Description: Datasheet; ComponentLink2URL: http://www.analog.com/static/imported-files/data_sheets/AD8065_8066.pdf; ComponentLink3Description: Package Specification; ComponentLink3URL: http://www.analog.com/static/imported-files/packages/PKG_PDF/SOT-23(RJ)/RJ_5.pdf; ComponentLink4Description: Reference Circuit; ComponentLink4URL: http://www.analog.com/en/all-operational-amplifiers-op-amps/operational-amplifiers-op-amps/ad8065/products/product.html#product-recommendations
footprint ADI-RJ-5_N (SOT-23, 5-Leads, Body 2.9x1.6mm, Pitch 0.95mm, IPC Medium Density)
footprint ADI-RJ-5_L (SOT-23, 5-Leads, Body 2.9x1.6mm, Pitch 0.95mm, IPC High Density)
footprint ADI-RJ-5_M (SOT-23, 5-Leads, Body 2.9x1.6mm, Pitch 0.95mm, IPC Low Density)
pins: 1 VOUT (out), 2 -VS (power), 3 +IN (in), 4 -IN (in), 5 +VS (power)

## AD8065ART-REEL
designator U?
Single Channel Low Power Operational Amplifier, 145 MHz BW, 180 V/us SR, Industrial, 5-pin SOT23 (RJ-5), Reel; Generic Part Number: AD8065; Manufacturer: Analog Devices; PartNumber: AD8065ART-REEL; Amplifiers Per Package: 1; Automotive Qualified: Yes; Input Bias Current: 2pA; Input Offset Voltage: 400uV; Iq/Amp: 7.4mA; Small Signal Bandwidth: 145MHz; V Span Max: 24V; V Span Min: 5V; DatasheetVersion: Rev. J; PackageVersion: 121608-A; PackageReference: RJ-5; PackageDescription: 5-Pin Small Outline Transistor Package, Body 2.9 x 1.6 mm, Pitch 0.95 mm; Supplier 1: Digi-Key; Supplier Part Number 1: AD8065ART-REEL-ND; Supplier 2: Newark; Supplier Part Number 2: 02H1827; Slew Rate: 180V/us; Mounting Technology: Surface Mount; Code_JEDEC: MO-178-AA; ComponentLink1Description: Manufacturer URL; ComponentLink1URL: http://www.analog.com/en/index.html; ComponentLink2Description: Datasheet; ComponentLink2URL: http://www.analog.com/static/imported-files/data_sheets/AD8065_8066.pdf; ComponentLink3Description: Package Specification; ComponentLink3URL: http://www.analog.com/static/imported-files/packages/PKG_PDF/SOT-23(RJ)/RJ_5.pdf; ComponentLink4Description: Reference Circuit; ComponentLink4URL: http://www.analog.com/en/all-operational-amplifiers-op-amps/operational-amplifiers-op-amps/ad8065/products/product.html#product-recommendations
footprint ADI-RJ-5_N (SOT-23, 5-Leads, Body 2.9x1.6mm, Pitch 0.95mm, IPC Medium Density)
footprint ADI-RJ-5_L (SOT-23, 5-Leads, Body 2.9x1.6mm, Pitch 0.95mm, IPC High Density)
footprint ADI-RJ-5_M (SOT-23, 5-Leads, Body 2.9x1.6mm, Pitch 0.95mm, IPC Low Density)
pins: 1 VOUT (out), 2 -VS (power), 3 +IN (in), 4 -IN (in), 5 +VS (power)

## AD8065ART-REEL7
designator U?
Single Channel Low Power Operational Amplifier, 145 MHz BW, 180 V/us SR, Industrial, 5-pin SOT23 (RJ-5), Reel; Generic Part Number: AD8065; Manufacturer: Analog Devices; PartNumber: AD8065ART-REEL7; Amplifiers Per Package: 1; Automotive Qualified: Yes; Input Bias Current: 2pA; Input Offset Voltage: 400uV; Iq/Amp: 7.4mA; Small Signal Bandwidth: 145MHz; V Span Max: 24V; V Span Min: 5V; DatasheetVersion: Rev. J; PackageVersion: 121608-A; PackageReference: RJ-5; PackageDescription: 5-Pin Small Outline Transistor Package, Body 2.9 x 1.6 mm, Pitch 0.95 mm; Supplier 1: Digi-Key; Supplier Part Number 1: AD8065ART-REEL7TR-ND; Supplier 2: Newark; Supplier Part Number 2: 02H1828; Slew Rate: 180V/us; Mounting Technology: Surface Mount; Code_JEDEC: MO-178-AA; ComponentLink1Description: Manufacturer URL; ComponentLink1URL: http://www.analog.com/en/index.html; ComponentLink2Description: Datasheet; ComponentLink2URL: http://www.analog.com/static/imported-files/data_sheets/AD8065_8066.pdf; ComponentLink3Description: Package Specification; ComponentLink3URL: http://www.analog.com/static/imported-files/packages/PKG_PDF/SOT-23(RJ)/RJ_5.pdf; ComponentLink4Description: Reference Circuit; ComponentLink4URL: http://www.analog.com/en/all-operational-amplifiers-op-amps/operational-amplifiers-op-amps/ad8065/products/product.html#product-recommendations
footprint ADI-RJ-5_N (SOT-23, 5-Leads, Body 2.9x1.6mm, Pitch 0.95mm, IPC Medium Density)
footprint ADI-RJ-5_L (SOT-23, 5-Leads, Body 2.9x1.6mm, Pitch 0.95mm, IPC High Density)
footprint ADI-RJ-5_M (SOT-23, 5-Leads, Body 2.9x1.6mm, Pitch 0.95mm, IPC Low Density)
pins: 1 VOUT (out), 2 -VS (power), 3 +IN (in), 4 -IN (in), 5 +VS (power)

## AD8065ARTZ-R2
designator U?
Single Channel Low Power Operational Amplifier, 145 MHz BW, 180 V/us SR, Industrial, 5-pin SOT23 (RJ-5), Reel; Generic Part Number: AD8065; Manufacturer: Analog Devices; PartNumber: AD8065ARTZ-R2; Amplifiers Per Package: 1; Automotive Qualified: Yes; Input Bias Current: 2pA; Input Offset Voltage: 400uV; Iq/Amp: 7.4mA; Small Signal Bandwidth: 145MHz; V Span Max: 24V; V Span Min: 5V; DatasheetVersion: Rev. J; PackageVersion: 121608-A; PackageReference: RJ-5; PackageDescription: 5-Pin Small Outline Transistor Package, Body 2.9 x 1.6 mm, Pitch 0.95 mm; Supplier 1: Farnell; Supplier Part Number 1: 1660983RL; Supplier 2: Farnell; Supplier Part Number 2: 1660983; Supplier 3: Newark; Supplier Part Number 3: 12M9038; Slew Rate: 180V/us; Mounting Technology: Surface Mount; Code_JEDEC: MO-178-AA; ComponentLink1Description: Manufacturer URL; ComponentLink1URL: http://www.analog.com/en/index.html; ComponentLink2Description: Datasheet; ComponentLink2URL: http://www.analog.com/static/imported-files/data_sheets/AD8065_8066.pdf; ComponentLink3Description: Package Specification; ComponentLink3URL: http://www.analog.com/static/imported-files/packages/PKG_PDF/SOT-23(RJ)/RJ_5.pdf; ComponentLink4Description: Reference Circuit; ComponentLink4URL: http://www.analog.com/en/all-operational-amplifiers-op-amps/operational-amplifiers-op-amps/ad8065/products/product.html#product-recommendations
footprint ADI-RJ-5_N (SOT-23, 5-Leads, Body 2.9x1.6mm, Pitch 0.95mm, IPC Medium Density)
footprint ADI-RJ-5_L (SOT-23, 5-Leads, Body 2.9x1.6mm, Pitch 0.95mm, IPC High Density)
footprint ADI-RJ-5_M (SOT-23, 5-Leads, Body 2.9x1.6mm, Pitch 0.95mm, IPC Low Density)
pins: 1 VOUT (out), 2 -VS (power), 3 +IN (in), 4 -IN (in), 5 +VS (power)

## AD8065ARTZ-REEL
designator U?
Single Channel Low Power Operational Amplifier, 145 MHz BW, 180 V/us SR, Industrial, 5-pin SOT23 (RJ-5), Reel; Generic Part Number: AD8065; Manufacturer: Analog Devices; PartNumber: AD8065ARTZ-REEL; Amplifiers Per Package: 1; Automotive Qualified: Yes; Input Bias Current: 2pA; Input Offset Voltage: 400uV; Iq/Amp: 7.4mA; Small Signal Bandwidth: 145MHz; V Span Max: 24V; V Span Min: 5V; DatasheetVersion: Rev. J; PackageVersion: 121608-A; PackageReference: RJ-5; PackageDescription: 5-Pin Small Outline Transistor Package, Body 2.9 x 1.6 mm, Pitch 0.95 mm; Supplier 1: Digi-Key; Supplier Part Number 1: AD8065ARTZ-REEL-ND; Supplier 2: Newark; Supplier Part Number 2: 59K6315; Slew Rate: 180V/us; Mounting Technology: Surface Mount; Code_JEDEC: MO-178-AA; ComponentLink1Description: Manufacturer URL; ComponentLink1URL: http://www.analog.com/en/index.html; ComponentLink2Description: Datasheet; ComponentLink2URL: http://www.analog.com/static/imported-files/data_sheets/AD8065_8066.pdf; ComponentLink3Description: Package Specification; ComponentLink3URL: http://www.analog.com/static/imported-files/packages/PKG_PDF/SOT-23(RJ)/RJ_5.pdf; ComponentLink4Description: Reference Circuit; ComponentLink4URL: http://www.analog.com/en/all-operational-amplifiers-op-amps/operational-amplifiers-op-amps/ad8065/products/product.html#product-recommendations
footprint ADI-RJ-5_N (SOT-23, 5-Leads, Body 2.9x1.6mm, Pitch 0.95mm, IPC Medium Density)
footprint ADI-RJ-5_L (SOT-23, 5-Leads, Body 2.9x1.6mm, Pitch 0.95mm, IPC High Density)
footprint ADI-RJ-5_M (SOT-23, 5-Leads, Body 2.9x1.6mm, Pitch 0.95mm, IPC Low Density)
pins: 1 VOUT (out), 2 -VS (power), 3 +IN (in), 4 -IN (in), 5 +VS (power)

## AD8065ARTZ-REEL7
designator U?
Single Channel Low Power Operational Amplifier, 145 MHz BW, 180 V/us SR, Industrial, 5-pin SOT23 (RJ-5), Reel; Generic Part Number: AD8065; Manufacturer: Analog Devices; PartNumber: AD8065ARTZ-REEL7; Amplifiers Per Package: 1; Automotive Qualified: Yes; Input Bias Current: 2pA; Input Offset Voltage: 400uV; Iq/Amp: 7.4mA; Small Signal Bandwidth: 145MHz; V Span Max: 24V; V Span Min: 5V; DatasheetVersion: Rev. J; PackageVersion: 121608-A; PackageReference: RJ-5; PackageDescription: 5-Pin Small Outline Transistor Package, Body 2.9 x 1.6 mm, Pitch 0.95 mm; Supplier 1: Digi-Key; Supplier Part Number 1: AD8065ARTZ-REEL7TR-ND; Supplier 2: Digi-Key; Supplier Part Number 2: AD8065ARTZ-REEL7CT-ND; Supplier 3: Digi-Key; Supplier Part Number 3: AD8065ARTZ-REEL7DKR-ND; Supplier 4: Farnell; Supplier Part Number 4: 1424052; Supplier 5: Newark; Supplier Part Number 5: 59K6316; Slew Rate: 180V/us; Mounting Technology: Surface Mount; Code_JEDEC: MO-178-AA; ComponentLink1Description: Manufacturer URL; ComponentLink1URL: http://www.analog.com/en/index.html; ComponentLink2Description: Datasheet; ComponentLink2URL: http://www.analog.com/static/imported-files/data_sheets/AD8065_8066.pdf; ComponentLink3Description: Package Specification; ComponentLink3URL: http://www.analog.com/static/imported-files/packages/PKG_PDF/SOT-23(RJ)/RJ_5.pdf; ComponentLink4Description: Reference Circuit; ComponentLink4URL: http://www.analog.com/en/all-operational-amplifiers-op-amps/operational-amplifiers-op-amps/ad8065/products/product.html#product-recommendations
footprint ADI-RJ-5_N (SOT-23, 5-Leads, Body 2.9x1.6mm, Pitch 0.95mm, IPC Medium Density)
footprint ADI-RJ-5_L (SOT-23, 5-Leads, Body 2.9x1.6mm, Pitch 0.95mm, IPC High Density)
footprint ADI-RJ-5_M (SOT-23, 5-Leads, Body 2.9x1.6mm, Pitch 0.95mm, IPC Low Density)
pins: 1 VOUT (out), 2 -VS (power), 3 +IN (in), 4 -IN (in), 5 +VS (power)

## AD8065ARZ
designator U?
Single Channel Low Power Operational Amplifier, 145 MHz BW, 180 V/us SR, Industrial, 8-pin SOIC (R-8), Tube; Generic Part Number: AD8065; Manufacturer: Analog Devices; PartNumber: AD8065ARZ; Amplifiers Per Package: 1; Automotive Qualified: Yes; Input Bias Current: 2pA; Input Offset Voltage: 400uV; Iq/Amp: 7.4mA; Small Signal Bandwidth: 145MHz; V Span Max: 24V; V Span Min: 5V; DatasheetVersion: Rev. J; PackageVersion: 060506-A; PackageReference: R-8; PackageDescription: 8-Pin Standard Small Outline Package, Body 3.9 x 4.9 mm, Pitch 1.27 mm; Supplier 1: Digi-Key; Supplier Part Number 1: AD8065ARZ-ND; Supplier 2: Farnell; Supplier Part Number 2: 1660985; Supplier 3: Newark; Supplier Part Number 3: 59K6317; Slew Rate: 180V/us; Mounting Technology: Surface Mount; Code_JEDEC: MS-012-AA; ComponentLink1Description: Manufacturer URL; ComponentLink1URL: http://www.analog.com/en/index.html; ComponentLink2Description: Datasheet; ComponentLink2URL: http://www.analog.com/static/imported-files/data_sheets/AD8065_8066.pdf; ComponentLink3Description: Package Specification; ComponentLink3URL: http://www.analog.com/static/imported-files/packages/PKG_PDF/SOIC_Narrow%20(R)/R_8.pdf; ComponentLink4Description: Reference Circuit; ComponentLink4URL: http://www.analog.com/en/all-operational-amplifiers-op-amps/operational-amplifiers-op-amps/ad8065/products/product.html#product-recommendations
footprint ADI-R-8_N (SOIC, 8-Leads, Body 4.9x3.9mm, Pitch 1.27mm, IPC Medium Density)
footprint ADI-R-8_L (SOIC, 8-Leads, Body 4.9x3.9mm, Pitch 1.27mm, IPC High Density)
footprint ADI-R-8_M (SOIC, 8-Leads, Body 4.9x3.9mm, Pitch 1.27mm, IPC Low Density)
part A pins: 2 -IN (in), 3 +IN (in), 4 -VS (power), 6 VOUT (out), 7 +VS (power)
part B pins: 1 NC, 5 NC, 8 NC